# Altium integrated library Samsung Microprocessor 32-Bit.IntLib: 2 symbols
Pins are listed as number, name and electrical type; pins without a type are passive.

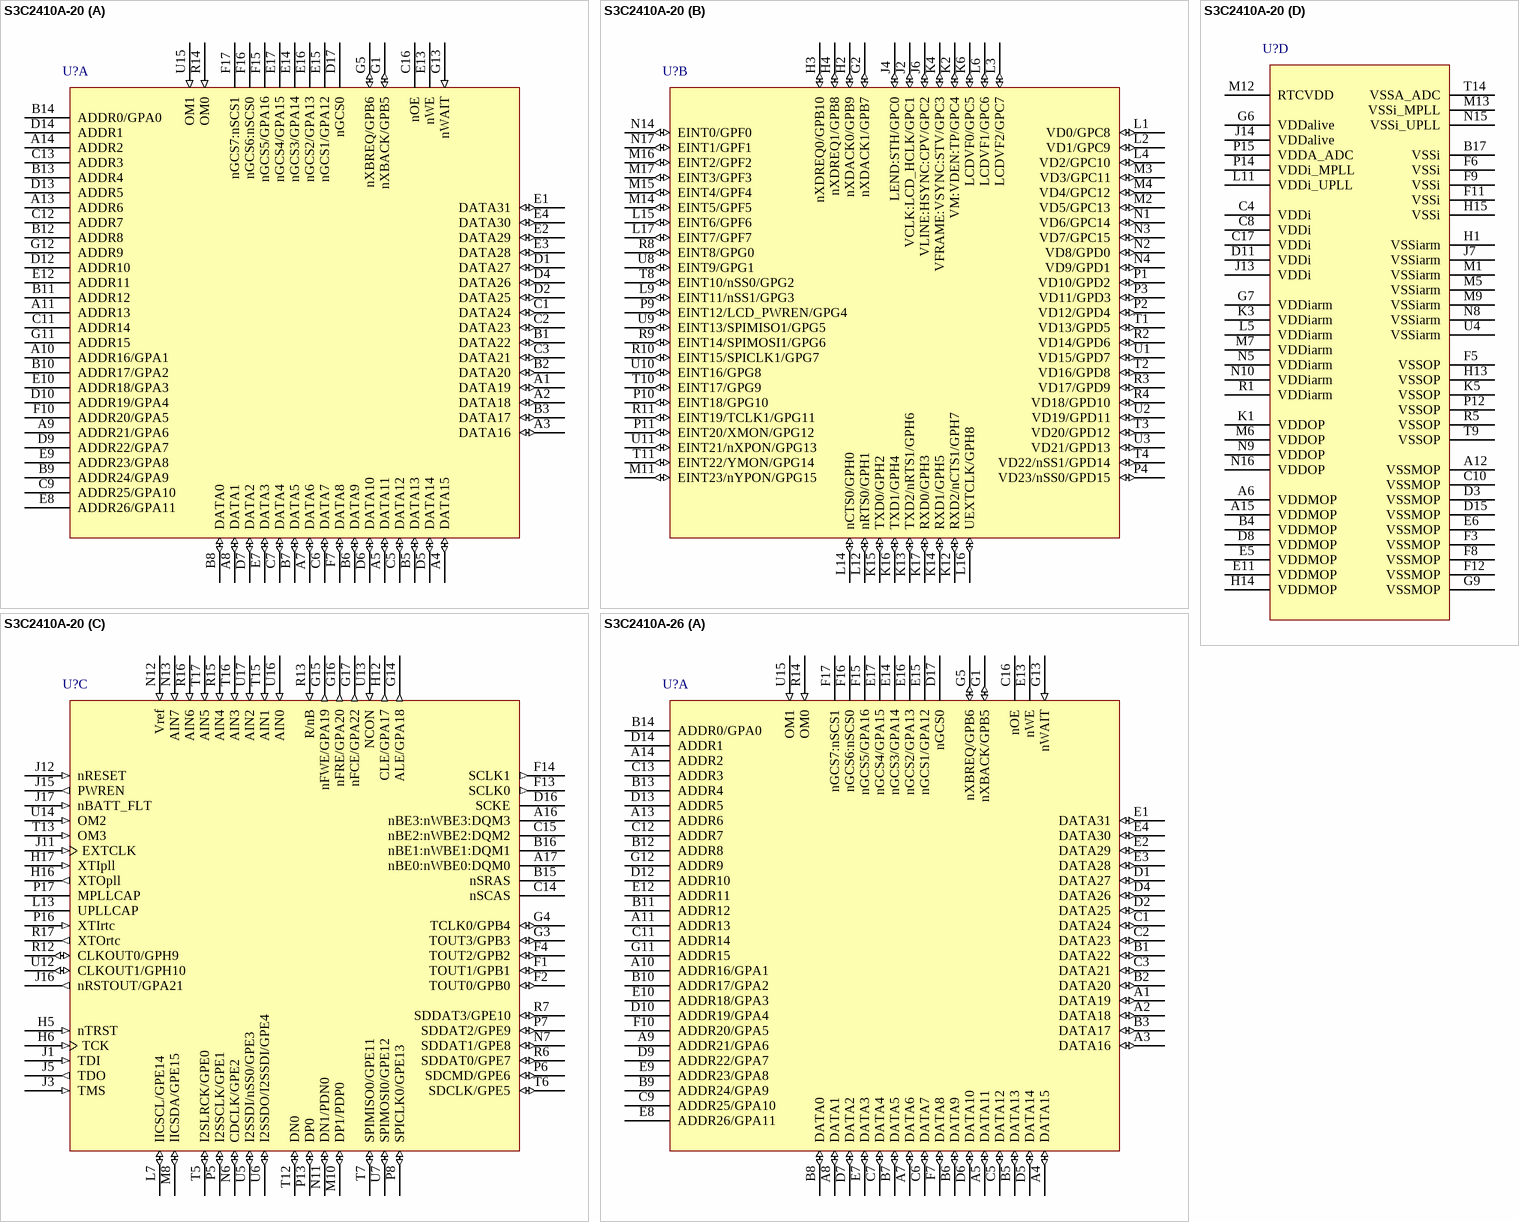
[diagram p0: symbols S3C2410A-20 to S3C2410A-26]

## S3C2410A-20
designator U?
32-Bit RISC Microprocessor, 200 MHz, 1.8V (Core), 3.3V (Memory and IO), 272-Pin FBGA; Published: 6-Oct-2005; LatestRevisionDate: 13-Apr-2006; LatestRevisionNote: IPC-7351 Footprint Added.; DatasheetVersion: rev1.0, Mar-2004; PackageVersion: Mar-2004; PackageReference: FBGA272; Publisher: Altium Limited; PackageDescription: 272-Ball Ball Grid Array 0.8 mm Pitch; ComponentLink1Description: Manufacturer Link; ComponentLink1URL: http://www.samsung.com; ComponentLink2Description: Datasheet; ComponentLink2URL: http://www.samsung.com/Products/Semiconductor/SystemLSI/MobileSolutions/MobileASSP/MobileComputing/S3C2410/um_s3c2410a_manual_r10.pdf
footprint FBGA272 (BGA, 272-Leads, Body 14x14mm, Pitch 0.8mm)
3D model S3C2410A-FBGA272 (272-Ball Ball Grid Array 0.8 mm Pitch)
part A pins: A1 DATA19 (io) "Data Bus", A2 DATA18 (io) "Data Bus", A3 DATA16 (io) "Data Bus", A4 DATA15 (io) "Data Bus", A5 DATA11 (io) "Data Bus", A7 DATA6 (io) "Data Bus", A8 DATA1 (io) "Data Bus", A9 ADDR21/GPA6 (hiz) "Address Bus/General Output port", A10 ADDR16/GPA1 (hiz) "Address Bus/General Output port", A11 ADDR13 (hiz) "Address Bus", A13 ADDR6 (hiz) "Address Bus", A14 ADDR2 (hiz) "Address Bus", B1 DATA22 (io) "Data Bus", B2 DATA20 (io) "Data Bus", B3 DATA17 (io) "Data Bus", B5 DATA13 (io) "Data Bus", B6 DATA9 (io) "Data Bus", B7 DATA5 (io) "Data Bus", B8 DATA0 (io) "Data Bus", B9 ADDR24/GPA9 (hiz) "Address Bus/General Output port", B10 ADDR17/GPA2 (hiz) "Address Bus/General Output port", B11 ADDR12 (hiz) "Address Bus", B12 ADDR8 (hiz) "Address Bus", B13 ADDR4 (hiz) "Address Bus", B14 ADDR0/GPA0 (hiz) "Address Bus/General Output port", C1 DATA24 (io) "Data Bus", C2 DATA23 (io) "Data Bus", C3 DATA21 (io) "Data Bus", C5 DATA12 (io) "Data Bus", C6 DATA7 (io) "Data Bus", C7 DATA4 (io) "Data Bus", C9 ADDR25/GPA10 (hiz) "Address Bus/General Output port", C11 ADDR14 (hiz) "Address Bus", C12 ADDR7 (hiz) "Address Bus", C13 ADDR3 (hiz) "Address Bus", C16 nOE (hiz) "Output Enable", D1 DATA27 (io) "Data Bus", D2 DATA25 (io) "Data Bus", D4 DATA26 (io) "Data Bus", D5 DATA14 (io) "Data Bus", D6 DATA10 (io) "Data Bus", D7 DATA2 (io) "Data Bus", D9 ADDR22/GPA7 (hiz) "Address Bus/General Output port", D10 ADDR19/GPA4 (hiz) "Address Bus/General Output port", D12 ADDR10 (hiz) "Address Bus", D13 ADDR5 (hiz) "Address Bus", D14 ADDR1 (hiz) "Address Bus", D17 nGCS0 (hiz) "General Chip Select", E1 DATA31 (io) "Data Bus", E2 DATA29 (io) "Data Bus", E3 DATA28 (io) "Data Bus", E4 DATA30 (io) "Data Bus", E7 DATA3 (io) "Data Bus", E8 ADDR26/GPA11 (hiz) "Address Bus/General Output port", E9 ADDR23/GPA8 (hiz) "Address Bus/General Output port", E10 ADDR18/GPA3 (hiz) "Address Bus/General Output port", E12 ADDR11 (hiz) "Address Bus", E13 nWE (hiz) "Write Enable", E14 nGCS3/GPA14 (hiz) "General Chip Select/General Output port", E15 nGCS1/GPA12 (hiz) "General Chip Select/General Output port", E16 nGCS2/GPA13 (hiz) "General Chip Select/General Output port", E17 nGCS4/GPA15 (hiz) "General Chip Select/General Output port", F7 DATA8 (io) "Data Bus", F10 ADDR20/GPA5 (hiz) "Address Bus/General Output port", F15 nGCS5/GPA16 (hiz) "General Chip Select/General Output port", F16 nGCS6:nSCS0 (hiz) "General Chip Select:SDRAM Chip Select", F17 nGCS7:nSCS1 (hiz) "General Chip Select:SDRAM Chip Select", G1 nXBACK/GPB5 (io) "Bus Hold Acknowledge/General IO port", G5 nXBREQ/GPB6 (io) "Bus Hold Request/General IO port", G11 ADDR15 (hiz) "Address Bus", G12 ADDR9 (hiz) "Address Bus", G13 nWAIT (in) "Requests to prolong current bus cycle", R14 OM0 (in) "OM sets S3C2410A in the TEST mode", U15 OM1 (in) "OM sets S3C2410A in the TEST mode"
part B pins: G2 nXDACK1/GPB7 (io) "External DMA acknowledge/General IO port", H2 nXDACK0/GPB9 (io) "External DMA acknowledge/General IO port", H3 nXDREQ0/GPB10 (io) "External DMA request/General IO port", H4 nXDREQ1/GPB8 (io) "External DMA request/General IO port", J2 VCLK:LCD_HCLK/GPC1 (io) "LCD clock signal:SEC TFT LCD panel control signal/General IO port", J4 LEND:STH/GPC0 (io) "Line End signal:SEC TFT LCD panel control signal/General IO port", J6 VLINE:HSYNC:CPV/GPC2 (io) "LCD line signal:Horizontal synchronous signal:SEC TFT LCD panel control signal/General IO port", K2 VM:VDEN:TP/GPC4 (io) "VM alternates the polarity of the row and column voltage:Data enable signal:SEC TFT LCD panel control signal/General IO port", K4 VFRAME:VSYNC:STV/GPC3 (io) "LCD Frame signal:Vertical synchronous signal:SEC TFT LCD panel control signal/General IO port", K6 LCDVF0/GPC5 (io) "Timing control signal for specific TFT LCD/General IO port", K12 RXD2/nCTS1/GPH7 (io) "UART receives data input/UART clear to send input signal/General IO port", K13 TXD2/nRTS1/GPH6 (io) "UART transmits data output/UART request to send output signal/General IO port", K14 RXD1/GPH5 (io) "UART receives data input/General IO port", K15 TXD0/GPH2 (io) "UART transmits data output/General IO port", K16 TXD1/GPH4 (io) "UART transmits data output/General IO port", K17 RXD0/GPH3 (io) "UART receives data input/General IO port", L1 VD0/GPC8 (io) "LCD Data Bus/General IO port", L2 VD1/GPC9 (io) "LCD Data Bus/General IO port", L3 LCDVF2/GPC7 (io) "Timing control signal for specific TFT LCD/General IO port", L4 VD2/GPC10 (io) "LCD Data Bus/General IO port", L6 LCDVF1/GPC6 (io) "Timing control signal for specific TFT LCD/General IO port", L9 EINT11/nSS1/GPG3 (io) "External Interrupt request/SPI chip select (only for slave mode)/General IO port", L12 nRTS0/GPH1 (io) "UART request to send output signal/General IO port", L14 nCTS0/GPH0 (io) "UART clear to send input signal/General IO port", L15 EINT6/GPF6 (io) "External Interrupt request/General IO port", L16 UEXTCLK/GPH8 (io) "UART clock signal/General IO port", L17 EINT7/GPF7 (io) "External Interrupt request/General IO port", M2 VD5/GPC13 (io) "LCD Data Bus/General IO port", M3 VD3/GPC11 (io) "LCD Data Bus/General IO port", M4 VD4/GPC12 (io) "LCD Data Bus/General IO port", M11 EINT23/nYPON/GPG15 (io) "External Interrupt request/Plus Y-axis on-off control signal/General IO port", M14 EINT5/GPF5 (io) "External Interrupt request/General IO port", M15 EINT4/GPF4 (io) "External Interrupt request/General IO port", M16 EINT2/GPF2 (io) "External Interrupt request/General IO port", M17 EINT3/GPF3 (io) "External Interrupt request/General IO port", N1 VD6/GPC14 (io) "LCD Data Bus/General IO port", N2 VD8/GPD0 (io) "LCD Data Bus/General IO port", N3 VD7/GPC15 (io) "LCD Data Bus/General IO port", N4 VD9/GPD1 (io) "LCD Data Bus/General IO port", N14 EINT0/GPF0 (io) "External Interrupt request/General IO port", N17 EINT1/GPF1 (io) "External Interrupt request/General IO port", P1 VD10/GPD2 (io) "LCD Data Bus/General IO port", P2 VD12/GPD4 (io) "LCD Data Bus/General IO port", P3 VD11/GPD3 (io) "LCD Data Bus/General IO port", P4 VD23/nSS0/GPD15 (io) "LCD Data Bus/SPI chip select (only for slave mode)/General IO port", P9 EINT12/LCD_PWREN/GPG4 (io) "External Interrupt request/LCD panel power enable control signal/General IO port", P10 EINT18/GPG10 (io) "External Interrupt request/General IO port", P11 EINT20/XMON/GPG12 (io) "External Interrupt request/Minus X-axis on-off control signal/General IO port", R2 VD14/GPD6 (io) "LCD Data Bus/General IO port", R3 VD17/GPD9 (io) "LCD Data Bus/General IO port", R4 VD18/GPD10 (io) "LCD Data Bus/General IO port", R8 EINT8/GPG0 (io) "External Interrupt request/General IO port", R9 EINT14/SPIMOSI1/GPG6 (io) "External Interrupt request/Master data output line when SPI is in master mode/General IO port", R10 EINT15/SPICLK1/GPG7 (io) "External Interrupt request/SPI clock/General IO port", R11 EINT19/TCLK1/GPG11 (io) "External Interrupt request/External timer clock input/General IO port", T1 VD13/GPD5 (io) "LCD Data Bus/General IO port", T2 VD16/GPD8 (io) "LCD Data Bus/General IO port", T3 VD20/GPD12 (io) "LCD Data Bus/General IO port", T4 VD22/nSS1/GPD14 (io) "LCD Data Bus/SPI chip select (only for slave mode)/General IO port", T8 EINT10/nSS0/GPG2 (io) "External Interrupt request/SPI chip select (only for slave mode)/General IO port", T10 EINT17/GPG9 (io) "External Interrupt request/General IO port", T11 EINT22/YMON/GPG14 (io) "External Interrupt request/Minus Y-axis on-off control signal/General IO port", U1 VD15/GPD7 (io) "LCD Data Bus/General IO port", U2 VD19/GPD11 (io) "LCD Data Bus/General IO port", U3 VD21/GPD13 (io) "LCD Data Bus/General IO port", U8 EINT9/GPG1 (io) "External Interrupt request/General IO port", U9 EINT13/SPIMISO1/GPG5 (io) "External Interrupt request/Master data input line when SPI is in master mode/General IO port", U10 EINT16/GPG8 (io) "External Interrupt request/General IO port", U11 EINT21/nXPON/GPG13 (io) "External Interrupt request/Plus X-axis on-off control signal/General IO port"
part C pins: A16 nBE3:nWBE3:DQM3 (hiz) "Upper Byte/Lower Byte Enable:Write Byte Enable:SDRAM Data Mask", A17 nBE0:nWBE0:DQM0 (hiz) "Upper Byte/Lower Byte Enable:Write Byte Enable:SDRAM Data Mask", B15 nSRAS (hiz) "SDRAM Row Address Strobe", B16 nBE1:nWBE1:DQM1 (hiz) "Upper Byte/Lower Byte Enable:Write Byte Enable:SDRAM Data Mask", C14 nSCAS (hiz) "SDRAM Column Address Strobe", C15 nBE2:nWBE2:DQM2 (hiz) "Upper Byte/Lower Byte Enable:Write Byte Enable:SDRAM Data Mask", D16 SCKE (hiz) "SDRAM Clock Enable", F1 TOUT1/GPB1 (io) "Timer Output/General IO port", F2 TOUT0/GPB0 (io) "Timer Output/General IO port", F4 TOUT2/GPB2 (io) "Timer Output/General IO port", F13 SCLK0 (out) "SDRAM Clock", F14 SCLK1 (out) "SDRAM Clock", G3 TOUT3/GPB3 (io) "Timer Output/General IO port", G4 TCLK0/GPB4 (io) "External timer clock input/General IO port", G14 ALE/GPA18 (out) "Address Latch Enable/General Output port", G15 nFWE/GPA19 (out) "NAND Flash Write Enable/General Output port", G16 nFRE/GPA20 (out) "NAND Flash Read Enable/General Output port", G17 nFCE/GPA22 (out) "NAND Flash Chip Enable/General Output port", H5 nTRST (in) "TAP Controller Reset", H6 TCK (in) "TAP Controller Clock", H12 CLE/GPA17 (out) "Command Latch Enable/General Output port", H16 XTOpll (out) "Crystal Output for internal oscillator circuit", H17 XTIpll (in) "Crystal Input for internal oscillator circuit", J1 TDI (in) "TAP Controller Data Input", J3 TMS (in) "TAP Controller Mode Select", J5 TDO (out) "TAP Controller Data Output", J11 EXTCLK (in) "External clock source", J12 nRESET (in) "Reset", J15 PWREN (out) "2.0V core power on-off control signal", J16 nRSTOUT/GPA21 (out) "Reset control for external device/General Output port", J17 nBATT_FLT (in) "Probe for battery state", L7 IICSCL/GPE14 (io) "IIC-bus clock/General IO port", L13 UPLLCAP "Loop filter capacitor for USB clock", M8 IICSDA/GPE15 (io) "IIC-bus data/General IO port", M10 DP1/PDP0 (io) "DATA (+) from USB host/DATA (+) for USB peripheral", N6 CDCLK/GPE2 (io) "CODEC system clock/General IO port", N7 SDDAT1/GPE8 (io) "SD receive/transmit data/General IO port", N11 DN1/PDN0 (io) "DATA (–) from USB host/DATA (–) for USB peripheral", N12 Vref (in) "ADC Vref", N13 AIN7 (in) "ADC Input", P5 I2SSCLK/GPE1 (io) "IIS-bus serial clock/General IO port", P6 SDCMD/GPE6 (io) "SD receive response/ transmit command/General IO port", P7 SDDAT2/GPE9 (io) "SD receive/transmit data/General IO port", P8 SPICLK0/GPE13 (io) "SPI clock/General IO port", P13 DP0 (io) "DATA (+) from USB host", P16 XTIrtc (in) "32.768 kHz crystal input for RTC", P17 MPLLCAP "Loop filter capacitor for main clock", R6 SDDAT0/GPE7 (io) "SD receive/transmit data/General IO port", R7 SDDAT3/GPE10 (io) "SD receive/transmit data/General IO port", R12 CLKOUT0/GPH9 (io) "Clock output signal/General IO port", R13 R/nB (in) "NAND Flash Ready/Busy", R15 AIN4 (in) "ADC Input", R16 AIN6 (in) "ADC Input", R17 XTOrtc (out) "32.768 kHz crystal output for RTC", T5 I2SLRCK/GPE0 (io) "IIS-bus channel select clock/General IO port", T6 SDCLK/GPE5 (io) "SD clock/General IO port", T7 SPIMISO0/GPE11 (io) "Master data input line when SPI is in master mode/General IO port", T12 DN0 (io) "DATA (–) from USB host", T13 OM3 (in) "OM determines how the clock is made", T15 AIN1 (in) "ADC Input", T16 AIN3 (in) "ADC Input", T17 AIN5 (in) "ADC Input", U5 I2SSDI/nSS0/GPE3 (io) "IIS-bus serial data input/SPI chip select (only for slave mode)/General IO port", U6 I2SSDO/I2SSDI/GPE4 (io) "IIS-bus serial data output/IIS-bus serial data input/General IO port", U7 SPIMOSI0/GPE12 (io) "Master data output line when SPI is in master mode/General IO port", U12 CLKOUT1/GPH10 (io) "Clock output signal/General IO port", U13 NCON (in) "NAND Flash Configuration", U14 OM2 (in) "OM determines how the clock is made", U16 AIN0 (in) "ADC Input", U17 AIN2 (in) "ADC Input"
part D pins: A6 VDDMOP (power) "Memory I/O VDD", A12 VSSMOP (power) "Memory I/O VSS", A15 VDDMOP (power) "Memory I/O VDD", B4 VDDMOP (power) "Memory I/O VDD", B17 VSSi (power) "Core Logic VSS", C4 VDDi (power) "Core Logic VDD for CPU", C8 VDDi (power) "Core Logic VDD for CPU", C10 VSSMOP (power) "Memory I/O VSS", C17 VDDi (power) "Core Logic VDD for CPU", D3 VSSMOP (power) "Memory I/O VSS", D8 VDDMOP (power) "Memory I/O VDD", D11 VDDi (power) "Core Logic VDD for CPU", D15 VSSMOP (power) "Memory I/O VSS", E5 VDDMOP (power) "Memory I/O VDD", E6 VSSMOP (power) "Memory I/O VSS", E11 VDDMOP (power) "Memory I/O VDD", F3 VSSMOP (power) "Memory I/O VSS", F5 VSSOP (power) "I/O port VSS", F6 VSSi (power) "Core Logic VSS", F8 VSSMOP (power) "Memory I/O VSS", F9 VSSi (power) "Core Logic VSS", F11 VSSi (power) "Core Logic VSS", F12 VSSMOP (power) "Memory I/O VSS", G6 VDDalive (power) "Reset block and port status register VDD", G7 VDDiarm (power) "Core Logic VDD for CPU", G9 VSSMOP (power) "Memory I/O VSS", H1 VSSiarm (power) "Core Logic VSS", H13 VSSOP (power) "I/O port VSS", H14 VDDMOP (power) "Memory I/O VDD", H15 VSSi (power) "Core Logic VSS", J7 VSSiarm (power) "Core Logic VSS", J13 VDDi (power) "Core Logic VDD for CPU", J14 VDDalive (power) "Reset block and port status register VDD", K1 VDDOP (power) "I/O port VDD (3.3V)", K3 VDDiarm (power) "Core Logic VDD for CPU", K5 VSSOP (power) "I/O port VSS", L5 VDDiarm (power) "Core Logic VDD for CPU", L11 VDDi_UPLL (power) "UPLL analog and digital VDD", M1 VSSiarm (power) "Core Logic VSS", M5 VSSiarm (power) "Core Logic VSS", M6 VDDOP (power) "I/O port VDD (3.3V)", M7 VDDiarm (power) "Core Logic VDD for CPU", M9 VSSiarm (power) "Core Logic VSS", M12 RTCVDD (power) "RTC VDD (1.8 V, Not support 2.0 and 3.3V)", M13 VSSi_MPLL (power) "MPLL analog and digital VSS", N5 VDDiarm (power) "Core Logic VDD for CPU", N8 VSSiarm (power) "Core Logic VSS", N9 VDDOP (power) "I/O port VDD (3.3V)", N10 VDDiarm (power) "Core Logic VDD for CPU", N15 VSSi_UPLL (power) "UPLL analog and digital VSS", N16 VDDOP (power) "I/O port VDD (3.3V)", P12 VSSOP (power) "I/O port VSS", P14 VDDi_MPLL (power) "MPLL analog and digital VDD", P15 VDDA_ADC (power) "ADC VDD (3.3V)", R1 VDDiarm (power) "Core Logic VDD for CPU", R5 VSSOP (power) "I/O port VSS", T9 VSSOP (power) "I/O port VSS", T14 VSSA_ADC (power) "ADC VSS", U4 VSSiarm (power) "Core Logic VSS"

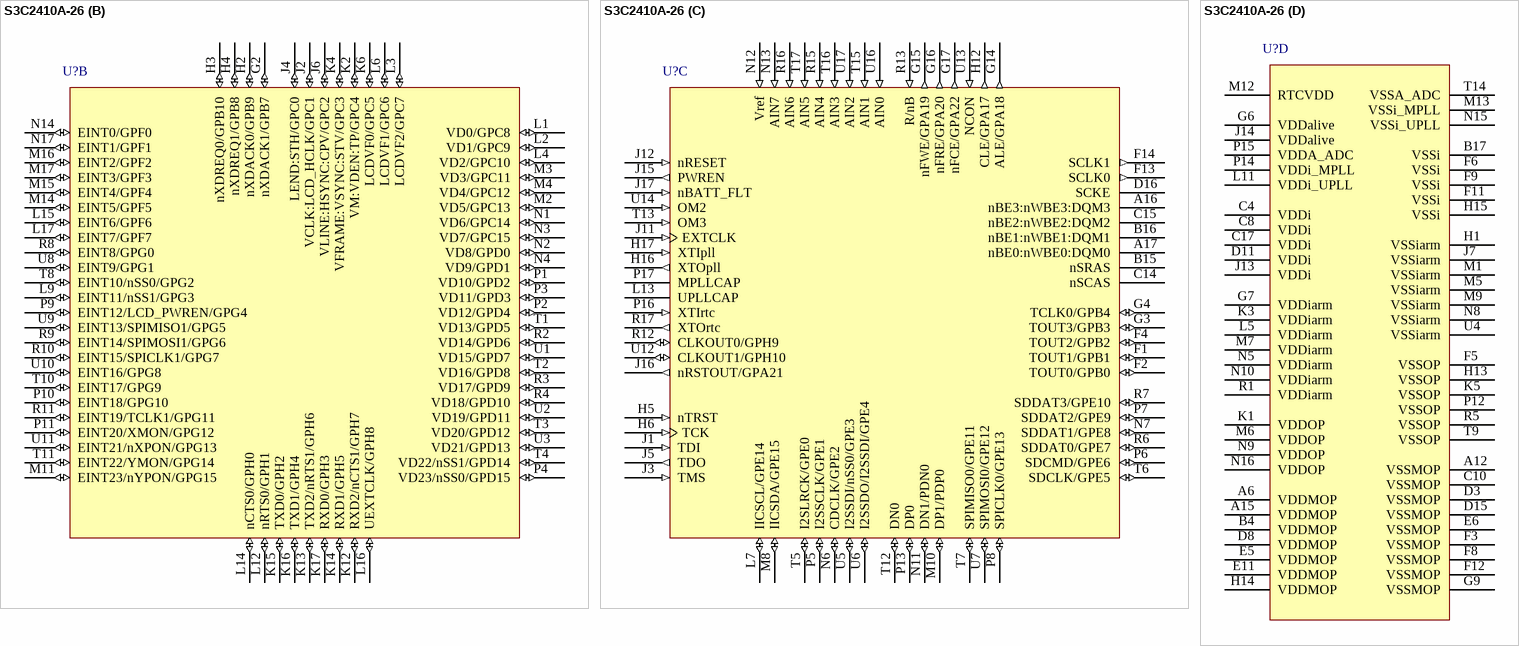
[diagram p1: symbol S3C2410A-26]

## S3C2410A-26
designator U?
32-Bit RISC Microprocessor, 266 MHz, 2.0V (Core), 3.3V (Memory and IO), 272-Pin FBGA; Published: 6-Oct-2005; LatestRevisionDate: 13-Apr-2006; LatestRevisionNote: IPC-7351 Footprint Added.; DatasheetVersion: rev1.0, Mar-2004; PackageVersion: Mar-2004; PackageReference: FBGA272; Publisher: Altium Limited; PackageDescription: 272-Ball Ball Grid Array 0.8 mm Pitch; ComponentLink1Description: Manufacturer Link; ComponentLink1URL: http://www.samsung.com; ComponentLink2Description: Datasheet; ComponentLink2URL: http://www.samsung.com/Products/Semiconductor/SystemLSI/MobileSolutions/MobileASSP/MobileComputing/S3C2410/um_s3c2410a_manual_r10.pdf
footprint FBGA272 (BGA, 272-Leads, Body 14x14mm, Pitch 0.8mm)
3D model S3C2410A-FBGA272 (272-Ball Ball Grid Array 0.8 mm Pitch)
part A pins: A1 DATA19 (io) "Data Bus", A2 DATA18 (io) "Data Bus", A3 DATA16 (io) "Data Bus", A4 DATA15 (io) "Data Bus", A5 DATA11 (io) "Data Bus", A7 DATA6 (io) "Data Bus", A8 DATA1 (io) "Data Bus", A9 ADDR21/GPA6 (hiz) "Address Bus/General Output port", A10 ADDR16/GPA1 (hiz) "Address Bus/General Output port", A11 ADDR13 (hiz) "Address Bus", A13 ADDR6 (hiz) "Address Bus", A14 ADDR2 (hiz) "Address Bus", B1 DATA22 (io) "Data Bus", B2 DATA20 (io) "Data Bus", B3 DATA17 (io) "Data Bus", B5 DATA13 (io) "Data Bus", B6 DATA9 (io) "Data Bus", B7 DATA5 (io) "Data Bus", B8 DATA0 (io) "Data Bus", B9 ADDR24/GPA9 (hiz) "Address Bus/General Output port", B10 ADDR17/GPA2 (hiz) "Address Bus/General Output port", B11 ADDR12 (hiz) "Address Bus", B12 ADDR8 (hiz) "Address Bus", B13 ADDR4 (hiz) "Address Bus", B14 ADDR0/GPA0 (hiz) "Address Bus/General Output port", C1 DATA24 (io) "Data Bus", C2 DATA23 (io) "Data Bus", C3 DATA21 (io) "Data Bus", C5 DATA12 (io) "Data Bus", C6 DATA7 (io) "Data Bus", C7 DATA4 (io) "Data Bus", C9 ADDR25/GPA10 (hiz) "Address Bus/General Output port", C11 ADDR14 (hiz) "Address Bus", C12 ADDR7 (hiz) "Address Bus", C13 ADDR3 (hiz) "Address Bus", C16 nOE (hiz) "Output Enable", D1 DATA27 (io) "Data Bus", D2 DATA25 (io) "Data Bus", D4 DATA26 (io) "Data Bus", D5 DATA14 (io) "Data Bus", D6 DATA10 (io) "Data Bus", D7 DATA2 (io) "Data Bus", D9 ADDR22/GPA7 (hiz) "Address Bus/General Output port", D10 ADDR19/GPA4 (hiz) "Address Bus/General Output port", D12 ADDR10 (hiz) "Address Bus", D13 ADDR5 (hiz) "Address Bus", D14 ADDR1 (hiz) "Address Bus", D17 nGCS0 (hiz) "General Chip Select", E1 DATA31 (io) "Data Bus", E2 DATA29 (io) "Data Bus", E3 DATA28 (io) "Data Bus", E4 DATA30 (io) "Data Bus", E7 DATA3 (io) "Data Bus", E8 ADDR26/GPA11 (hiz) "Address Bus/General Output port", E9 ADDR23/GPA8 (hiz) "Address Bus/General Output port", E10 ADDR18/GPA3 (hiz) "Address Bus/General Output port", E12 ADDR11 (hiz) "Address Bus", E13 nWE (hiz) "Write Enable", E14 nGCS3/GPA14 (hiz) "General Chip Select/General Output port", E15 nGCS1/GPA12 (hiz) "General Chip Select/General Output port", E16 nGCS2/GPA13 (hiz) "General Chip Select/General Output port", E17 nGCS4/GPA15 (hiz) "General Chip Select/General Output port", F7 DATA8 (io) "Data Bus", F10 ADDR20/GPA5 (hiz) "Address Bus/General Output port", F15 nGCS5/GPA16 (hiz) "General Chip Select/General Output port", F16 nGCS6:nSCS0 (hiz) "General Chip Select:SDRAM Chip Select", F17 nGCS7:nSCS1 (hiz) "General Chip Select:SDRAM Chip Select", G1 nXBACK/GPB5 (io) "Bus Hold Acknowledge/General IO port", G5 nXBREQ/GPB6 (io) "Bus Hold Request/General IO port", G11 ADDR15 (hiz) "Address Bus", G12 ADDR9 (hiz) "Address Bus", G13 nWAIT (in) "Requests to prolong current bus cycle", R14 OM0 (in) "OM sets S3C2410A in the TEST mode", U15 OM1 (in) "OM sets S3C2410A in the TEST mode"
part B pins: G2 nXDACK1/GPB7 (io) "External DMA acknowledge/General IO port", H2 nXDACK0/GPB9 (io) "External DMA acknowledge/General IO port", H3 nXDREQ0/GPB10 (io) "External DMA request/General IO port", H4 nXDREQ1/GPB8 (io) "External DMA request/General IO port", J2 VCLK:LCD_HCLK/GPC1 (io) "LCD clock signal:SEC TFT LCD panel control signal/General IO port", J4 LEND:STH/GPC0 (io) "Line End signal:SEC TFT LCD panel control signal/General IO port", J6 VLINE:HSYNC:CPV/GPC2 (io) "LCD line signal:Horizontal synchronous signal:SEC TFT LCD panel control signal/General IO port", K2 VM:VDEN:TP/GPC4 (io) "VM alternates the polarity of the row and column voltage:Data enable signal:SEC TFT LCD panel control signal/General IO port", K4 VFRAME:VSYNC:STV/GPC3 (io) "LCD Frame signal:Vertical synchronous signal:SEC TFT LCD panel control signal/General IO port", K6 LCDVF0/GPC5 (io) "Timing control signal for specific TFT LCD/General IO port", K12 RXD2/nCTS1/GPH7 (io) "UART receives data input/UART clear to send input signal/General IO port", K13 TXD2/nRTS1/GPH6 (io) "UART transmits data output/UART request to send output signal/General IO port", K14 RXD1/GPH5 (io) "UART receives data input/General IO port", K15 TXD0/GPH2 (io) "UART transmits data output/General IO port", K16 TXD1/GPH4 (io) "UART transmits data output/General IO port", K17 RXD0/GPH3 (io) "UART receives data input/General IO port", L1 VD0/GPC8 (io) "LCD Data Bus/General IO port", L2 VD1/GPC9 (io) "LCD Data Bus/General IO port", L3 LCDVF2/GPC7 (io) "Timing control signal for specific TFT LCD/General IO port", L4 VD2/GPC10 (io) "LCD Data Bus/General IO port", L6 LCDVF1/GPC6 (io) "Timing control signal for specific TFT LCD/General IO port", L9 EINT11/nSS1/GPG3 (io) "External Interrupt request/SPI chip select (only for slave mode)/General IO port", L12 nRTS0/GPH1 (io) "UART request to send output signal/General IO port", L14 nCTS0/GPH0 (io) "UART clear to send input signal/General IO port", L15 EINT6/GPF6 (io) "External Interrupt request/General IO port", L16 UEXTCLK/GPH8 (io) "UART clock signal/General IO port", L17 EINT7/GPF7 (io) "External Interrupt request/General IO port", M2 VD5/GPC13 (io) "LCD Data Bus/General IO port", M3 VD3/GPC11 (io) "LCD Data Bus/General IO port", M4 VD4/GPC12 (io) "LCD Data Bus/General IO port", M11 EINT23/nYPON/GPG15 (io) "External Interrupt request/Plus Y-axis on-off control signal/General IO port", M14 EINT5/GPF5 (io) "External Interrupt request/General IO port", M15 EINT4/GPF4 (io) "External Interrupt request/General IO port", M16 EINT2/GPF2 (io) "External Interrupt request/General IO port", M17 EINT3/GPF3 (io) "External Interrupt request/General IO port", N1 VD6/GPC14 (io) "LCD Data Bus/General IO port", N2 VD8/GPD0 (io) "LCD Data Bus/General IO port", N3 VD7/GPC15 (io) "LCD Data Bus/General IO port", N4 VD9/GPD1 (io) "LCD Data Bus/General IO port", N14 EINT0/GPF0 (io) "External Interrupt request/General IO port", N17 EINT1/GPF1 (io) "External Interrupt request/General IO port", P1 VD10/GPD2 (io) "LCD Data Bus/General IO port", P2 VD12/GPD4 (io) "LCD Data Bus/General IO port", P3 VD11/GPD3 (io) "LCD Data Bus/General IO port", P4 VD23/nSS0/GPD15 (io) "LCD Data Bus/SPI chip select (only for slave mode)/General IO port", P9 EINT12/LCD_PWREN/GPG4 (io) "External Interrupt request/LCD panel power enable control signal/General IO port", P10 EINT18/GPG10 (io) "External Interrupt request/General IO port", P11 EINT20/XMON/GPG12 (io) "External Interrupt request/Minus X-axis on-off control signal/General IO port", R2 VD14/GPD6 (io) "LCD Data Bus/General IO port", R3 VD17/GPD9 (io) "LCD Data Bus/General IO port", R4 VD18/GPD10 (io) "LCD Data Bus/General IO port", R8 EINT8/GPG0 (io) "External Interrupt request/General IO port", R9 EINT14/SPIMOSI1/GPG6 (io) "External Interrupt request/Master data output line when SPI is in master mode/General IO port", R10 EINT15/SPICLK1/GPG7 (io) "External Interrupt request/SPI clock/General IO port", R11 EINT19/TCLK1/GPG11 (io) "External Interrupt request/External timer clock input/General IO port", T1 VD13/GPD5 (io) "LCD Data Bus/General IO port", T2 VD16/GPD8 (io) "LCD Data Bus/General IO port", T3 VD20/GPD12 (io) "LCD Data Bus/General IO port", T4 VD22/nSS1/GPD14 (io) "LCD Data Bus/SPI chip select (only for slave mode)/General IO port", T8 EINT10/nSS0/GPG2 (io) "External Interrupt request/SPI chip select (only for slave mode)/General IO port", T10 EINT17/GPG9 (io) "External Interrupt request/General IO port", T11 EINT22/YMON/GPG14 (io) "External Interrupt request/Minus Y-axis on-off control signal/General IO port", U1 VD15/GPD7 (io) "LCD Data Bus/General IO port", U2 VD19/GPD11 (io) "LCD Data Bus/General IO port", U3 VD21/GPD13 (io) "LCD Data Bus/General IO port", U8 EINT9/GPG1 (io) "External Interrupt request/General IO port", U9 EINT13/SPIMISO1/GPG5 (io) "External Interrupt request/Master data input line when SPI is in master mode/General IO port", U10 EINT16/GPG8 (io) "External Interrupt request/General IO port", U11 EINT21/nXPON/GPG13 (io) "External Interrupt request/Plus X-axis on-off control signal/General IO port"
part C pins: A16 nBE3:nWBE3:DQM3 (hiz) "Upper Byte/Lower Byte Enable:Write Byte Enable:SDRAM Data Mask", A17 nBE0:nWBE0:DQM0 (hiz) "Upper Byte/Lower Byte Enable:Write Byte Enable:SDRAM Data Mask", B15 nSRAS (hiz) "SDRAM Row Address Strobe", B16 nBE1:nWBE1:DQM1 (hiz) "Upper Byte/Lower Byte Enable:Write Byte Enable:SDRAM Data Mask", C14 nSCAS (hiz) "SDRAM Column Address Strobe", C15 nBE2:nWBE2:DQM2 (hiz) "Upper Byte/Lower Byte Enable:Write Byte Enable:SDRAM Data Mask", D16 SCKE (hiz) "SDRAM Clock Enable", F1 TOUT1/GPB1 (io) "Timer Output/General IO port", F2 TOUT0/GPB0 (io) "Timer Output/General IO port", F4 TOUT2/GPB2 (io) "Timer Output/General IO port", F13 SCLK0 (out) "SDRAM Clock", F14 SCLK1 (out) "SDRAM Clock", G3 TOUT3/GPB3 (io) "Timer Output/General IO port", G4 TCLK0/GPB4 (io) "External timer clock input/General IO port", G14 ALE/GPA18 (out) "Address Latch Enable/General Output port", G15 nFWE/GPA19 (out) "NAND Flash Write Enable/General Output port", G16 nFRE/GPA20 (out) "NAND Flash Read Enable/General Output port", G17 nFCE/GPA22 (out) "NAND Flash Chip Enable/General Output port", H5 nTRST (in) "TAP Controller Reset", H6 TCK (in) "TAP Controller Clock", H12 CLE/GPA17 (out) "Command Latch Enable/General Output port", H16 XTOpll (out) "Crystal Output for internal oscillator circuit", H17 XTIpll (in) "Crystal Input for internal oscillator circuit", J1 TDI (in) "TAP Controller Data Input", J3 TMS (in) "TAP Controller Mode Select", J5 TDO (out) "TAP Controller Data Output", J11 EXTCLK (in) "External clock source", J12 nRESET (in) "Reset", J15 PWREN (out) "2.0V core power on-off control signal", J16 nRSTOUT/GPA21 (out) "Reset control for external device/General Output port", J17 nBATT_FLT (in) "Probe for battery state", L7 IICSCL/GPE14 (io) "IIC-bus clock/General IO port", L13 UPLLCAP "Loop filter capacitor for USB clock", M8 IICSDA/GPE15 (io) "IIC-bus data/General IO port", M10 DP1/PDP0 (io) "DATA (+) from USB host/DATA (+) for USB peripheral", N6 CDCLK/GPE2 (io) "CODEC system clock/General IO port", N7 SDDAT1/GPE8 (io) "SD receive/transmit data/General IO port", N11 DN1/PDN0 (io) "DATA (–) from USB host/DATA (–) for USB peripheral", N12 Vref (in) "ADC Vref", N13 AIN7 (in) "ADC Input", P5 I2SSCLK/GPE1 (io) "IIS-bus serial clock/General IO port", P6 SDCMD/GPE6 (io) "SD receive response/ transmit command/General IO port", P7 SDDAT2/GPE9 (io) "SD receive/transmit data/General IO port", P8 SPICLK0/GPE13 (io) "SPI clock/General IO port", P13 DP0 (io) "DATA (+) from USB host", P16 XTIrtc (in) "32.768 kHz crystal input for RTC", P17 MPLLCAP "Loop filter capacitor for main clock", R6 SDDAT0/GPE7 (io) "SD receive/transmit data/General IO port", R7 SDDAT3/GPE10 (io) "SD receive/transmit data/General IO port", R12 CLKOUT0/GPH9 (io) "Clock output signal/General IO port", R13 R/nB (in) "NAND Flash Ready/Busy", R15 AIN4 (in) "ADC Input", R16 AIN6 (in) "ADC Input", R17 XTOrtc (out) "32.768 kHz crystal output for RTC", T5 I2SLRCK/GPE0 (io) "IIS-bus channel select clock/General IO port", T6 SDCLK/GPE5 (io) "SD clock/General IO port", T7 SPIMISO0/GPE11 (io) "Master data input line when SPI is in master mode/General IO port", T12 DN0 (io) "DATA (–) from USB host", T13 OM3 (in) "OM determines how the clock is made", T15 AIN1 (in) "ADC Input", T16 AIN3 (in) "ADC Input", T17 AIN5 (in) "ADC Input", U5 I2SSDI/nSS0/GPE3 (io) "IIS-bus serial data input/SPI chip select (only for slave mode)/General IO port", U6 I2SSDO/I2SSDI/GPE4 (io) "IIS-bus serial data output/IIS-bus serial data input/General IO port", U7 SPIMOSI0/GPE12 (io) "Master data output line when SPI is in master mode/General IO port", U12 CLKOUT1/GPH10 (io) "Clock output signal/General IO port", U13 NCON (in) "NAND Flash Configuration", U14 OM2 (in) "OM determines how the clock is made", U16 AIN0 (in) "ADC Input", U17 AIN2 (in) "ADC Input"
part D pins: A6 VDDMOP (power) "Memory I/O VDD", A12 VSSMOP (power) "Memory I/O VSS", A15 VDDMOP (power) "Memory I/O VDD", B4 VDDMOP (power) "Memory I/O VDD", B17 VSSi (power) "Core Logic VSS", C4 VDDi (power) "Core Logic VDD for CPU", C8 VDDi (power) "Core Logic VDD for CPU", C10 VSSMOP (power) "Memory I/O VSS", C17 VDDi (power) "Core Logic VDD for CPU", D3 VSSMOP (power) "Memory I/O VSS", D8 VDDMOP (power) "Memory I/O VDD", D11 VDDi (power) "Core Logic VDD for CPU", D15 VSSMOP (power) "Memory I/O VSS", E5 VDDMOP (power) "Memory I/O VDD", E6 VSSMOP (power) "Memory I/O VSS", E11 VDDMOP (power) "Memory I/O VDD", F3 VSSMOP (power) "Memory I/O VSS", F5 VSSOP (power) "I/O port VSS", F6 VSSi (power) "Core Logic VSS", F8 VSSMOP (power) "Memory I/O VSS", F9 VSSi (power) "Core Logic VSS", F11 VSSi (power) "Core Logic VSS", F12 VSSMOP (power) "Memory I/O VSS", G6 VDDalive (power) "Reset block and port status register VDD", G7 VDDiarm (power) "Core Logic VDD for CPU", G9 VSSMOP (power) "Memory I/O VSS", H1 VSSiarm (power) "Core Logic VSS", H13 VSSOP (power) "I/O port VSS", H14 VDDMOP (power) "Memory I/O VDD", H15 VSSi (power) "Core Logic VSS", J7 VSSiarm (power) "Core Logic VSS", J13 VDDi (power) "Core Logic VDD for CPU", J14 VDDalive (power) "Reset block and port status register VDD", K1 VDDOP (power) "I/O port VDD (3.3V)", K3 VDDiarm (power) "Core Logic VDD for CPU", K5 VSSOP (power) "I/O port VSS", L5 VDDiarm (power) "Core Logic VDD for CPU", L11 VDDi_UPLL (power) "UPLL analog and digital VDD", M1 VSSiarm (power) "Core Logic VSS", M5 VSSiarm (power) "Core Logic VSS", M6 VDDOP (power) "I/O port VDD (3.3V)", M7 VDDiarm (power) "Core Logic VDD for CPU", M9 VSSiarm (power) "Core Logic VSS", M12 RTCVDD (power) "RTC VDD (1.8 V, Not support 2.0 and 3.3V)", M13 VSSi_MPLL (power) "MPLL analog and digital VSS", N5 VDDiarm (power) "Core Logic VDD for CPU", N8 VSSiarm (power) "Core Logic VSS", N9 VDDOP (power) "I/O port VDD (3.3V)", N10 VDDiarm (power) "Core Logic VDD for CPU", N15 VSSi_UPLL (power) "UPLL analog and digital VSS", N16 VDDOP (power) "I/O port VDD (3.3V)", P12 VSSOP (power) "I/O port VSS", P14 VDDi_MPLL (power) "MPLL analog and digital VDD", P15 VDDA_ADC (power) "ADC VDD (3.3V)", R1 VDDiarm (power) "Core Logic VDD for CPU", R5 VSSOP (power) "I/O port VSS", T9 VSSOP (power) "I/O port VSS", T14 VSSA_ADC (power) "ADC VSS", U4 VSSiarm (power) "Core Logic VSS"